# Altium schematic symbol library auton_LED_schlib.SchLib: 2 symbols
Pins are listed as number, name and electrical type; pins without a type are passive.

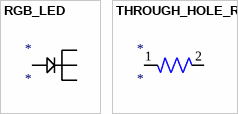
[diagram p0: symbols RGB_LED to THROUGH_HOLE_RES]

## RGB_LED
designator *
footprint RGB_LED
pins: ?1, ?2

## THROUGH_HOLE_RES
designator *
footprint THROUGH_HOLE_RES
pins: 1, 2